# Altium schematic symbol library EKMC1605113.SchLib: 1 symbol
Pins are listed as number, name and electrical type; pins without a type are passive.

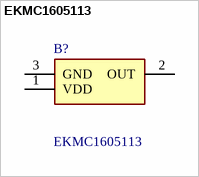
[diagram p0: symbol EKMC1605113]

## EKMC1605113
designator B?
PIR Sensor Digital 5m 3-Pin Tray Horizontally Wide Detection Type, 170A; Manufacturer_Name: Panasonic; Geometry.Height: 16.6mm; Mouser Part Number: 667-EKMC1605113; Mouser Price/Stock: https://www.mouser.co.uk/ProductDetail/Panasonic-Industrial-Devices/EKMC1605113?qs=YCa%2FAAYMW038SgkU4g3cHw%3D%3D; Manufacturer_Part_Number: EKMC1605113; Datasheet Link: https://www3.panasonic.biz/ac/ae/dl/catalog/index.jsp?series_cd=2481&part_no=EKMC1605113
footprint EKMC1605113
pins: 1 VDD, 2 OUT, 3 GND